# Altium schematic symbol library Transformers.SchLib: 24 symbols
Pins are listed as number, name and electrical type; pins without a type are passive.

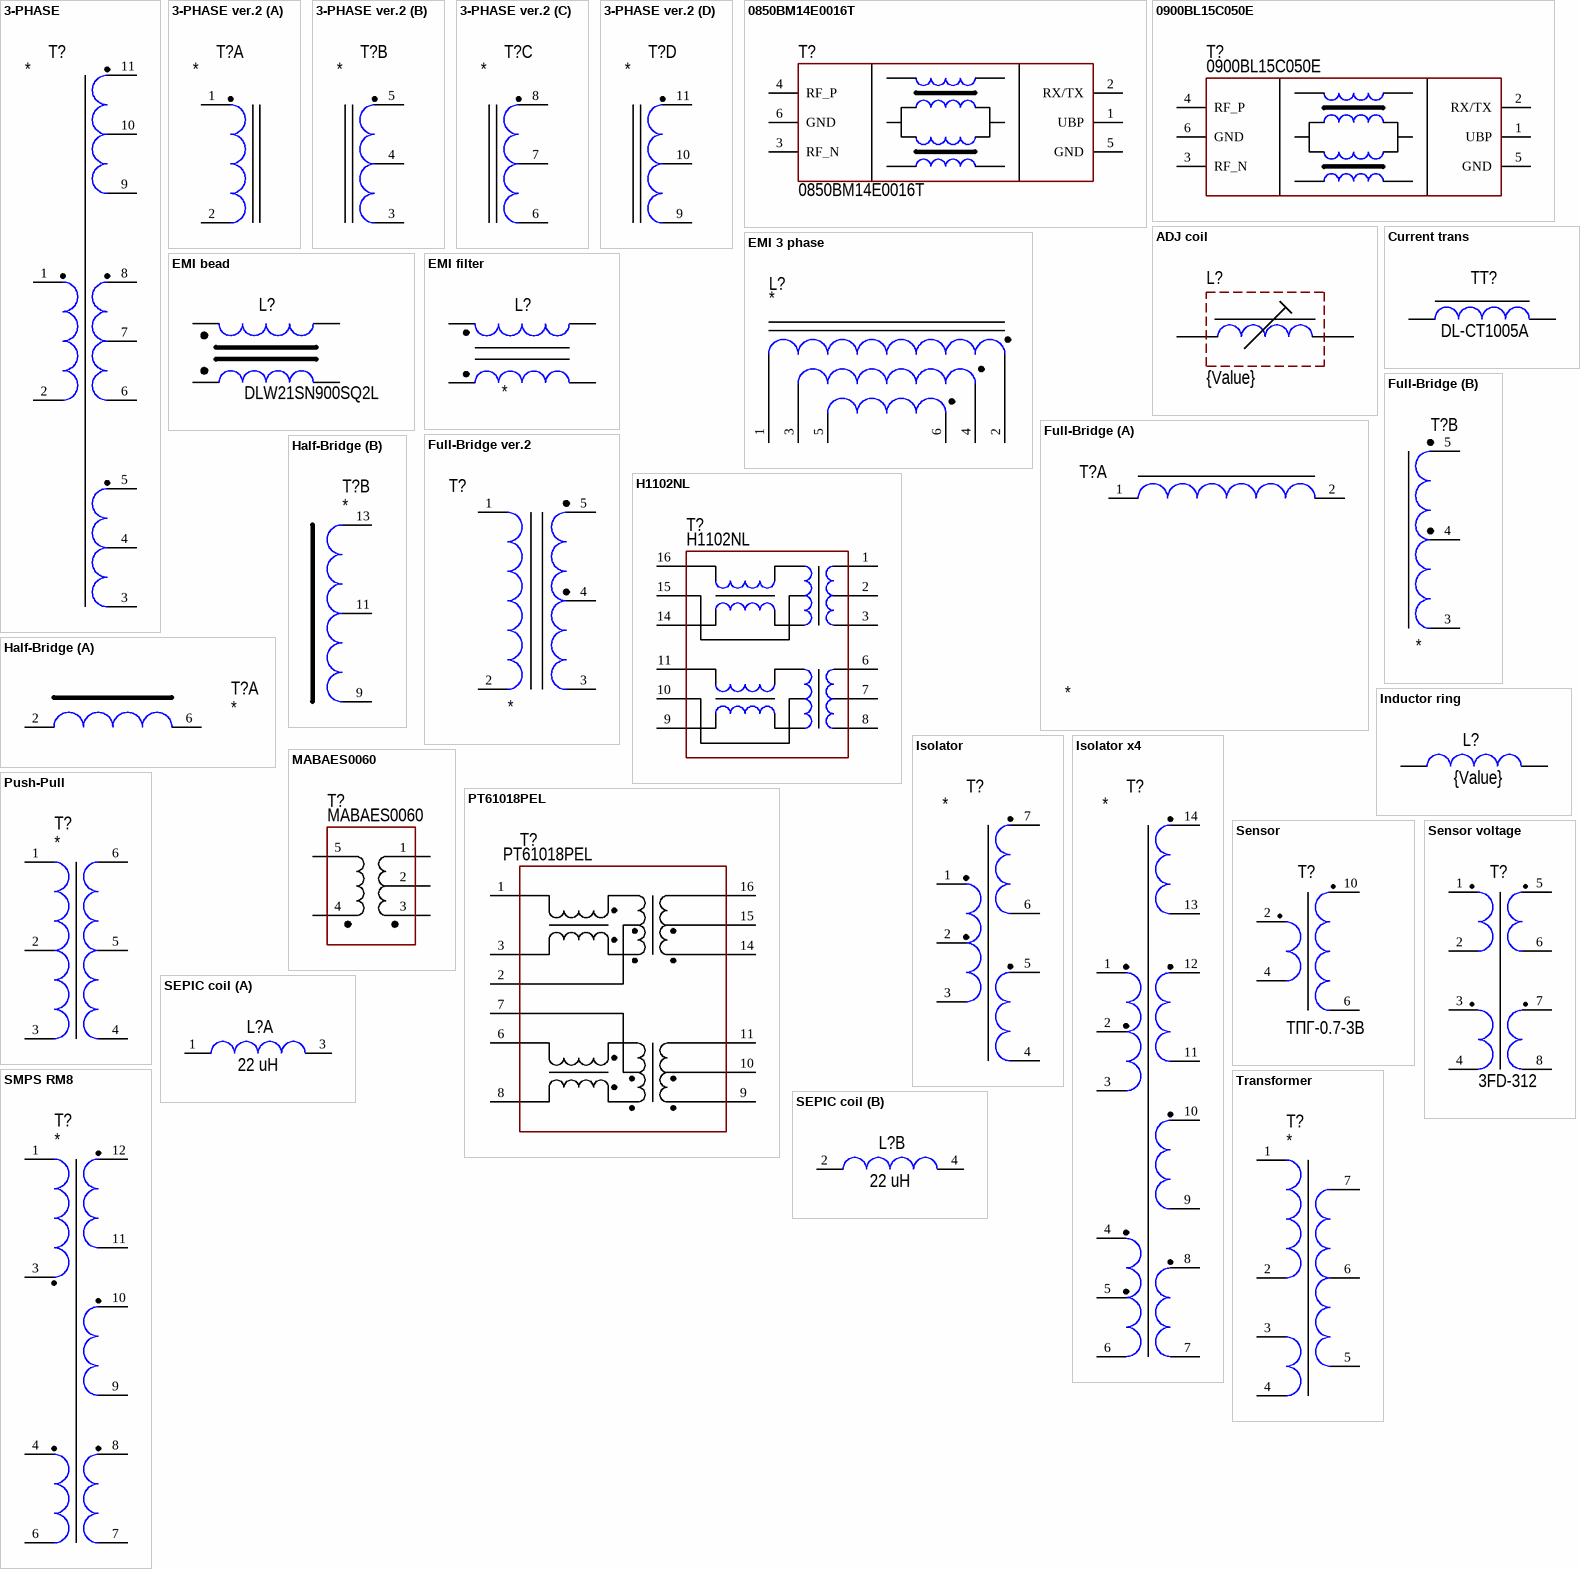
[diagram p0: symbols 3-PHASE to Transformer]

## 3-PHASE
designator T?
Impulse; Model: *; Manufacturer: *; HelpURL: *; ComponentKind: *
footprint TRANS: ETD59/31/22 3-PH
pins: 1 (power), 2 (power), 3 (power), 4 (power), 5 (power), 6 (power), 7 (power), 8 (power), 9 (power), 10 (power), 11 (power)

## 3-PHASE ver.2
designator T?
Impulse; Model: *; Manufacturer: *; HelpURL: *; ComponentKind: *
footprint TRANS: ETD59/31/22 3-PH
part A pins: 1 (power), 2 (power)
part B pins: 3 (power), 4 (power), 5 (power)
part C pins: 6 (power), 7 (power), 8 (power)
part D pins: 9 (power), 10 (power), 11 (power)

## 0850BM14E0016T
designator T?
Balun; Manufacturer: Johanson Technology Inc.; Model: 0850BM14E0016T; ComponentKind: 770-928 MHz; HelpURL: https://www.digikey.com/product-detail/en/johanson-technology-inc/0850BM14E0016T/712-1621-1-ND/6187665
footprint TRANS: 0900BL15C050
pins: 1 UBP, 2 RX/TX, 3 RF_N, 4 RF_P, 5 GND, 6 GND

## 0900BL15C050E
designator T?
Balun; Manufacturer: Johanson Technology Inc.; Model: 0900BL15C050E; HelpURL: https://www.digikey.com/product-detail/en/johanson-technology-inc/0900BL15C050E/712-1022-1-ND/1560851; ComponentKind: *
footprint TRANS: 0900BL15C050
pins: 1 UBP, 2 RX/TX, 3 RF_N, 4 RF_P, 5 GND, 6 GND

## ADJ coil
designator L?, comment {Value}
Model: *; Value: {Value}; ComponentKind: *; Manufacturer: *; HelpURL: *
footprint IND: adj coil
pins: 1, 2

## Current trans
designator TT?, comment DL-CT1005A
Manufacturer: China; Value: {Value}; ComponentKind: 10A/5mA; HelpURL: https://ru.aliexpress.com/item/5-DL-CT1005A-50A-10A-5mA/32838390306.html?spm=a2g0s.13010208.99999999.259.652c3c00PLVXLF; Model: DL-CT1005A
footprint TRANS: DL-CT1005A
pins: 1, 2

## EMI 3 phase
designator L?
Model: *; Manufacturer: *; HelpURL: *; ComponentKind: *
footprint IND: RT8532-8-4M8 (3PH)
footprint IND: RT8532-20-2M5
pins: 1, 2, 3, 4, 5, 6

## EMI bead
designator L?, comment DLW21SN900SQ2L
Manufacturer: Murata Electronics North America; Model: DLW21SN900SQ2L; HelpURL: https://www.digikey.com/product-detail/en/murata-electronics-north-america/DLW21SN900SQ2L/490-5137-1-ND/1922888; ComponentKind: Bead
footprint TRANS: DLW21
pins: 1, 2, 3, 4

## EMI filter
designator L?
Model: *; Manufacturer: *; HelpURL: *; ComponentKind: *
footprint IND: ALFT-03A-14
footprint IND: R32
footprint TRANS: E6.3
footprint IND: R24 emi
footprint IND: 744824101
pins: 1, 2, 3, 4

## Full-Bridge
designator T?
Impulse; Model: *; Manufacturer: *; HelpURL: *; ComponentKind: *
footprint TRANS: ETD59/31/22 FB
footprint TRANS: ETD44/22/15-FB
part A pins: 1 (power), 2 (power)
part B pins: 3 (power), 4 (power), 5 (power)

## Full-Bridge ver.2
designator T?
Impulse; Model: *; Manufacturer: *; HelpURL: *; ComponentKind: *
footprint TRANS: ETD59/31/22 FB
footprint TRANS: ETD44/22/15-FB
footprint TRANS: ETD49/25/16 - FB
pins: 1 (power), 2 (power), 3 (power), 4 (power), 5 (power)

## H1102NL
designator T?
Ethernet; Manufacturer: Pulse Electronics Corporation; Model: HX1188NLT; HelpURL: https://www.digikey.com/product-detail/en/pulse-electronics-network/HX1188NLT/553-1536-1-ND/3151809; ComponentKind: Ethernet
footprint TRANS: 16-SOP
pins: 1, 2, 3, 6, 7, 8, 9, 10, 11, 14, 15, 16

## Half-Bridge
designator T?
Impulse; Model: *; Manufacturer: *; HelpURL: *; ComponentKind: *
footprint TRANS: ETD34/17/11
part A pins: 2 (power), 6 (power)
part B pins: 9 (power), 11 (power), 13 (power)

## Inductor ring
designator L?, comment {Value}
Model: *; Value: {Value}; ComponentKind: *; Manufacturer: *; HelpURL: *
footprint IND: R39
footprint IND: R24
footprint IND: R26
footprint IND: R46
footprint IND: R57
footprint IND: R32
footprint IND: R32 DR
pins: 1, 2

## Isolator
designator T?
Impulse; Model: *; Manufacturer: *; HelpURL: *; ComponentKind: *
footprint TRANS: EFD20/10/7
footprint TRANS: EFD15/8/5
footprint TRANS: ER9.5/5
pins: 1 (power), 2 (power), 3 (power), 4 (power), 5 (power), 6 (power), 7 (power)

## Isolator x4
designator T?
Impulse; Model: *; Manufacturer: *; HelpURL: *; ComponentKind: *
footprint TRANS: E20/10/6 (EF20)
pins: 1 (power), 2 (power), 3 (power), 4 (power), 5 (power), 6 (power), 7 (power), 8 (power), 9 (power), 10 (power), 11 (power), 12 (power), 13 (power), 14 (power)

## MABAES0060
designator T?
Balun; Manufacturer: M/A-Com Technology Solutions; Model: MABAES0060; HelpURL: https://www.digikey.com/product-detail/en/m-a-com-technology-solutions/MABAES0060/1465-1317-1-ND/4430014; ComponentKind: 300kHz - 200MHz
footprint TRANS: MABAES0060
pins: 1, 2, 3, 4, 5

## PT61018PEL
designator T?
Ethernet; Manufacturer: Bourns; Model: PT61018PEL; HelpURL: https://www.digikey.com/product-detail/en/bourns-inc/PT61018PEL/PT61018PELCT-ND/5355751; ComponentKind: Ethernet
footprint TRANS: PT61018PEL
pins: 1, 2, 3, 6, 7, 8, 9, 10, 11, 14, 15, 16

## Push-Pull
designator T?
Impulse; Model: *; Manufacturer: *; HelpURL: *; ComponentKind: *
footprint TRANS: ETD44/22/15-PP
footprint TRANS: ETD59/31/22 PP
pins: 1 (power), 2 (power), 3 (power), 4 (power), 5 (power), 6 (power)

## Sensor
designator T?, comment ТПГ-0.7-3В
Sensor; Manufacturer: НПК «Комплекс»; Model: ТПГ-0.7-3В; HelpURL: https://www.chipdip.ru/product/tpk-0.7-3v; ComponentKind: Voltage sensor
footprint TRANS: ТПК-7
pins: 2 (power), 4 (power), 6 (power), 10 (power)

## Sensor voltage
designator T?, comment 3FD-312
Sensor; Manufacturer: Tamura; Model: 3FD-312; HelpURL: https://www.digikey.com/product-detail/en/tamura/3FD-312/MT2102-ND/98296; ComponentKind: Voltage sensor
footprint TRANS: 3FD-312
pins: 1 (power), 2 (power), 3 (power), 4 (power), 5 (power), 6 (power), 7 (power), 8 (power)

## SEPIC coil
designator L?, comment 22 uH
Manufacturer: Eaton; Model: DRQ127-220-R; Value: 22 uH; ComponentKind: SEPIC/flyback; HelpURL: https://www.digikey.com/product-detail/en/eaton/DRQ127-220-R/513-1145-1-ND/754643
footprint IND: DRQ127 (Inductor)
part A pins: 1, 3
part B pins: 2, 4

## SMPS RM8
designator T?
Impulse; Model: *; Manufacturer: *; HelpURL: *; ComponentKind: *
footprint TRANS: RM8
footprint TRANS: RM8 ver.2
pins: 1 (power), 3 (power), 4 (power), 6 (power), 7 (power), 8 (power), 9 (power), 10 (power), 11 (power), 12 (power)

## Transformer
designator T?
Impulse; Model: *; Manufacturer: *; HelpURL: *; ComponentKind: *
footprint TRANS: RM10
footprint TRANS: RM12
footprint TRANS: RM14
footprint TRANS: E25/13/7
footprint TRANS: ETD34/17/11
footprint TRANS: ETD44/22/15
footprint TRANS: ELP18/4/10
footprint TRANS: ELP18/4/10 - 4pc
footprint TRANS: ELP32/3/20
pins: 1 (power), 2 (power), 3 (power), 4 (power), 5 (power), 6 (power), 7 (power)